# Altium schematic symbol library BQ25180.Schlib: 1 symbol
Pins are listed as number, name and electrical type; pins without a type are passive.

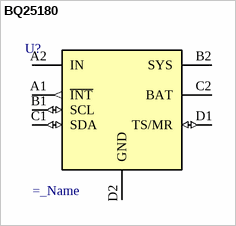
[diagram p0: symbol BQ25180]

## BQ25180
designator U?  (value not drawn)
=description; Value: =_Name
pins: A1 ~{INT} (out), A2 IN (power), B1 SCL (io), B2 SYS (power), C1 SDA (io), C2 BAT (power), D1 TS/MR (io), D2 GND